# Altium integrated library L298N.IntLib: 1 symbol
Pins are listed as number, name and electrical type; pins without a type are passive.

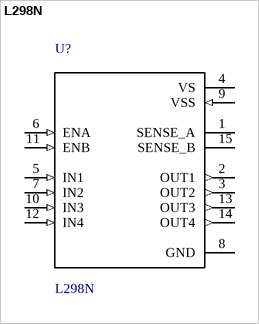
[diagram p0: symbol L298N]

## L298N
designator U?
Dual Full Bridge Motor Driver 15-Pin_15+Tab_ MULTIWATT V Tube; MF: STMicroelectronics; Availability: Unavailable; MP: L298N; Package: Multiwatt-15 STMicroelectronics; SnapEDA_Link: https://www.snapeda.com/parts/L298N/STMicroelectronics/view-part/?ref=snap; Price: None; Value: *
footprint *TO127P2020X500X2100-15
pins: 1 SENSE_A, 2 OUT1 (out), 3 OUT2 (out), 4 VS (power), 5 IN1 (in), 6 ENA (in), 7 IN2 (in), 8 GND (power), 9 VSS (in), 10 IN3 (in), 11 ENB (in), 12 IN4 (in), 13 OUT3 (out), 14 OUT4 (out), 15 SENSE_B